# Altium schematic symbol library e-lib.SchLib: 11 symbols
Pins are listed as number, name and electrical type; pins without a type are passive.

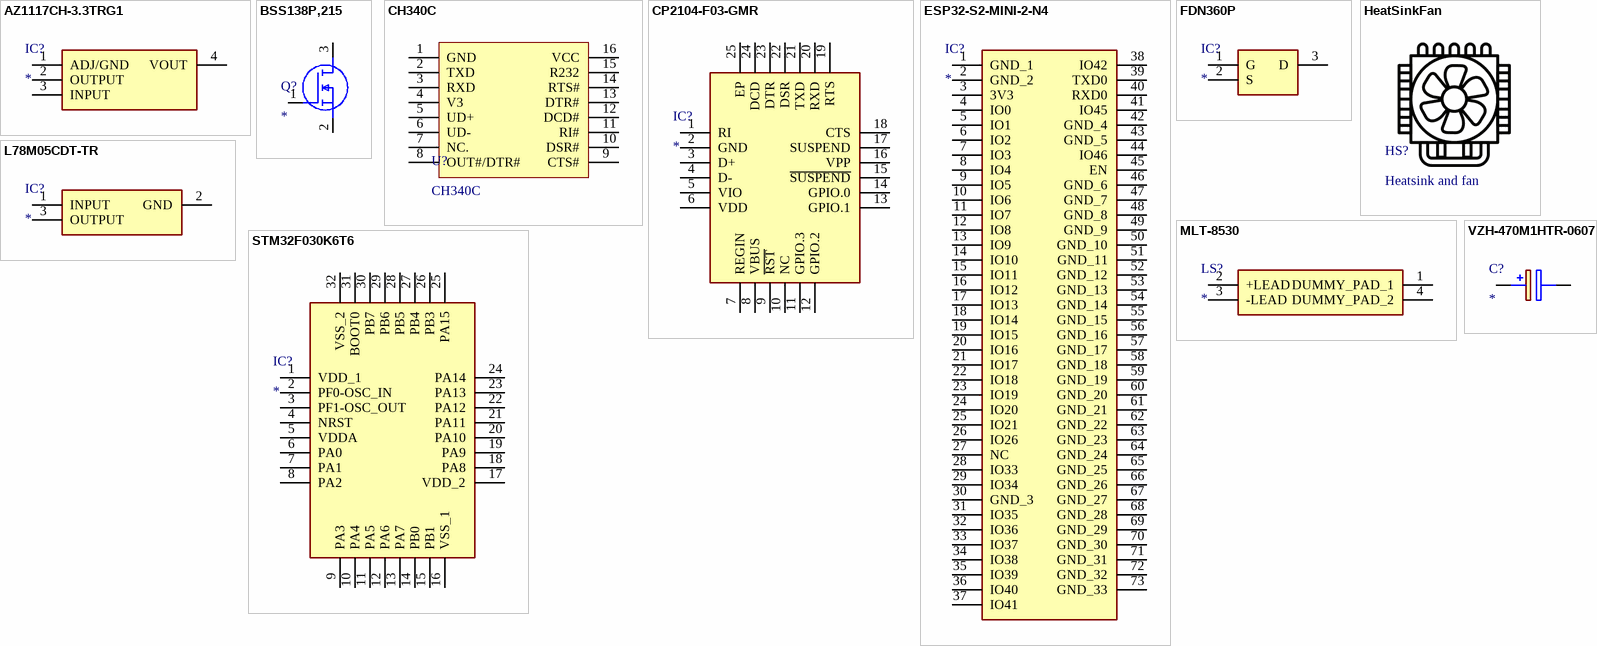
[diagram p0: symbols AZ1117CH-3.3TRG1 to VZH-470M1HTR-0607]

## AZ1117CH-3.3TRG1
designator IC?
Integrated Circuit; Manufacturer_Name: Diodes Incorporated; Manufacturer_Part_Number: AZ1117CH-3.3TRG1; Datasheet Link: https://www.diodes.com//assets/Datasheets/AZ1117C.pdf; Height: 1.8mm; Mouser Part Number: 621-AZ1117CH-3.3TRG1; Mouser Price/Stock: https://www.mouser.co.uk/ProductDetail/Diodes-Incorporated/AZ1117CH-3.3TRG1?qs=FKu9oBikfSm7ntaG6olPSQ%3D%3D; Arrow Part Number: AZ1117CH-3.3TRG1; Arrow Price/Stock: https://www.arrow.com/en/products/az1117ch-3.3trg1/diodes-incorporated?utm_currency=USD&region=nac
footprint SOT230P700X180-4N
pins: 1 ADJ/GND, 2 OUTPUT, 3 INPUT, 4 VOUT

## BSS138P,215
designator Q?
MOSFET (N-Channel); Manufacturer_Name: Nexperia; Manufacturer_Part_Number: BSS138P,215; Datasheet Link: https://assets.nexperia.com/documents/data-sheet/BSS138P.pdf; Height: 1.1mm; Mouser Part Number: 771-BSS138P215; Mouser Price/Stock: https://www.mouser.co.uk/ProductDetail/Nexperia/BSS138P215?qs=A1cBxND5mHJyVAOcRahidg%3D%3D; Arrow Part Number: BSS138P,215; Arrow Price/Stock: https://www.arrow.com/en/products/bss138p215/nexperia?utm_currency=USD&region=nac
footprint SOT95P230X110-3N
pins: 1 G, 2 S, 3 D

## CH340C
designator U?
pins: 1 GND, 2 TXD, 3 RXD, 4 V3, 5 UD+, 6 UD-, 7 NC., 8 OUT#/DTR#, 9 CTS#, 10 DSR#, 11 RI#, 12 DCD#, 13 DTR#, 14 RTS#, 15 R232, 16 VCC

## CP2104-F03-GMR
designator IC?
Integrated Circuit; Manufacturer_Name: Silicon Labs; Manufacturer_Part_Number: CP2104-F03-GMR; Datasheet Link: https://www.silabs.com/documents/public/data-sheets/cp2104.pdf; Height: 0.8mm; Mouser Part Number: 634-CP2104-F03-GMR; Mouser Price/Stock: https://www.mouser.co.uk/ProductDetail/Silicon-Labs/CP2104-F03-GMR?qs=1CB38rTTsYrRJKVkczeRzA%3D%3D; Arrow Part Number: CP2104-F03-GMR; Arrow Price/Stock: https://www.arrow.com/en/products/cp2104-f03-gmr/silicon-labs?utm_currency=USD&region=nac
footprint QFN50P400X400X80-25N-D
pins: 1 RI, 2 GND, 3 D+, 4 D-, 5 VIO, 6 VDD, 7 REGIN, 8 VBUS, 9 ~{RST}, 10 NC, 11 GPIO.3, 12 GPIO.2, 13 GPIO.1, 14 GPIO.0, 15 ~{SUSPEND}, 16 VPP, 17 SUSPEND, 18 CTS, 19 RTS, 20 RXD, 21 TXD, 22 DSR, 23 DTR, 24 DCD, 25 EP

## ESP32-S2-MINI-2-N4
designator IC?
Integrated Circuit; Manufacturer_Name: Espressif Systems; Manufacturer_Part_Number: ESP32-S2-MINI-2-N4; Datasheet Link: https://www.digikey.ph/en/products/detail/espressif-systems/ESP32-S2-MINI-2-N4/16591891; Height: 2.55mm; Mouser Part Number: 356-ESP32MINI-2-N4; Mouser Price/Stock: https://www.mouser.co.uk/ProductDetail/Espressif-Systems/ESP32-S2-MINI-2-N4?qs=vvQtp7zwQdM3K3%252BMqU8BtA%3D%3D
footprint ESP32S2MINI2N4
pins: 1 GND_1, 2 GND_2, 3 3V3, 4 IO0, 5 IO1, 6 IO2, 7 IO3, 8 IO4, 9 IO5, 10 IO6, 11 IO7, 12 IO8, 13 IO9, 14 IO10, 15 IO11, 16 IO12, 17 IO13, 18 IO14, 19 IO15, 20 IO16, 21 IO17, 22 IO18, 23 IO19, 24 IO20, 25 IO21, 26 IO26, 27 NC, 28 IO33, 29 IO34, 30 GND_3, 31 IO35, 32 IO36, 33 IO37, 34 IO38, 35 IO39, 36 IO40, 37 IO41, 38 IO42, 39 TXD0, 40 RXD0, 41 IO45, 42 GND_4, 43 GND_5, 44 IO46, 45 EN, 46 GND_6, 47 GND_7, 48 GND_8, 49 GND_9, 50 GND_10, 51 GND_11, 52 GND_12, 53 GND_13, 54 GND_14, 55 GND_15, 56 GND_16, 57 GND_17, 58 GND_18, 59 GND_19, 60 GND_20, 61 GND_21, 62 GND_22, 63 GND_23, 64 GND_24, 65 GND_25, 66 GND_26, 67 GND_27, 68 GND_28, 69 GND_29, 70 GND_30, 71 GND_31, 72 GND_32, 73 GND_33

## FDN360P
designator IC?
Integrated Circuit; Manufacturer_Name: onsemi; Manufacturer_Part_Number: FDN360P; Description: RDS(on) = 125 m @ VGS = -4.5 V ; High Power Version of Industry Standard SOT-23 Package. Identical Pin-Out to SOT-23 with 30% Higher Power Handling Capability; High Performance Trench Technology for Extremely Low rDS(on); -2 A; Datasheet Link: https://www.onsemi.com/pub/Collateral/FDN360P-D.PDF; Height: 1.12mm; Mouser Part Number: 512-FDN360P; Mouser Price/Stock: https://www.mouser.co.uk/ProductDetail/onsemi-Fairchild/FDN360P?qs=zGDcupr4zwN8JFelapXFpw%3D%3D; Arrow Part Number: FDN360P; Arrow Price/Stock: https://www.arrow.com/en/products/fdn360p/on-semiconductor?region=nac
footprint SOT95P251X112-3N
pins: 1 G, 2 S, 3 D

## HeatSinkFan
designator HS?, comment Heatsink and fan  (mechanical)

## L78M05CDT-TR
designator IC?
Integrated Circuit; Manufacturer_Name: STMicroelectronics; Manufacturer_Part_Number: L78M05CDT-TR; Datasheet Link: https://componentsearchengine.com/Datasheets/2/L78M05CDT-TR.pdf; Height: 2.4mm; Mouser Part Number: 511-L78M05CDT-TR; Mouser Price/Stock: https://www.mouser.co.uk/ProductDetail/STMicroelectronics/L78M05CDT-TR?qs=JIXmGdi%252BcuKa7ml6d%2FqNIw%3D%3D; Arrow Part Number: L78M05CDT-TR; Arrow Price/Stock: https://www.arrow.com/en/products/l78m05cdt-tr/stmicroelectronics?utm_currency=USD&region=europe
footprint L78M05CDTTR
pins: 1 INPUT, 2 GND, 3 OUTPUT

## MLT-8530
designator LS?
Loudspeaker or Buzzer; Manufacturer_Name: Jiangsu Huaneng Elec; Datasheet Link: https://datasheet.lcsc.com/szlcsc/1811182003_Jiangsu-Huaneng-Elec-MLT-8530_C94599.pdf; Height: 3mm; Manufacturer_Part_Number: MLT-8530
footprint MLT8530
pins: 1 DUMMY_PAD_1, 2 +LEAD, 3 -LEAD, 4 DUMMY_PAD_2

## STM32F030K6T6
designator IC?
Integrated Circuit; Manufacturer_Name: STMicroelectronics; Manufacturer_Part_Number: STM32F030K6T6; Datasheet Link: http://www.st.com/web/en/resource/technical/document/datasheet/DM00088500.pdf; Height: 1.6mm; Mouser Part Number: 511-STM32F030K6T6; Mouser Price/Stock: https://www.mouser.co.uk/ProductDetail/STMicroelectronics/STM32F030K6T6?qs=eyrSuY1LhL2nYlb0JDdrAA%3D%3D; Arrow Part Number: STM32F030K6T6; Arrow Price/Stock: https://www.arrow.com/en/products/stm32f030k6t6/stmicroelectronics?utm_currency=USD&region=nac
footprint QFP80P900X900X160-32N
pins: 1 VDD_1, 2 PF0-OSC_IN, 3 PF1-OSC_OUT, 4 NRST, 5 VDDA, 6 PA0, 7 PA1, 8 PA2, 9 PA3, 10 PA4, 11 PA5, 12 PA6, 13 PA7, 14 PB0, 15 PB1, 16 VSS_1, 17 VDD_2, 18 PA8, 19 PA9, 20 PA10, 21 PA11, 22 PA12, 23 PA13, 24 PA14, 25 PA15, 26 PB3, 27 PB4, 28 PB5, 29 PB6, 30 PB7, 31 BOOT0, 32 VSS_2

## VZH-470M1HTR-0607
designator C?
Capacitor Polarised; Manufacturer_Name: Lelon; Manufacturer_Part_Number: VZH-470M1HTR-0607; Datasheet Link: https://www.mouser.in/datasheet/2/231/161587245243-2307006.pdf; Height: 8mm; Mouser Part Number: 140-VZH470M1HTR0607; Mouser Price/Stock: https://www.mouser.co.uk/ProductDetail/Lelon/VZH-470M1HTR-0607?qs=GtPRU6UQL8x246GW06GOpw%3D%3D
footprint CAPAE660X800N
pins: 1 +, 2 -